# EAGLE library part WE-DS_214113003 (library Wurth_Elektronik_Passive_rev16b)
WE-DS D-SUB-Filter Solder Cup Characteristics Easy soldering, even for small strand cross sections Standard type filtered with 1000 pF High attenuation: max. ≥ 40 dB @ 180 MHz Choice of UNC 4/40 or through hole Rated voltage: 100 VDC Rated current @ 20 ºC: 5 A Withstand voltage: 250 VRMS Insulation resistance: min. 1000 MΩ Operating temperature: –55 ºC to +125 ºC Applications Filtering of interfaces External connection to -printer -sensor -display <http://katalog.we-online.de/media/thumbs2/eisos/thb_AbsDSubFilter_Loetkelch_pf2.jpg> Details see: http://katalog.we-online.de/en/pbs/Filter_Loetkelch Created on 2015-05-05 2015 (C) Wurth Elektronik
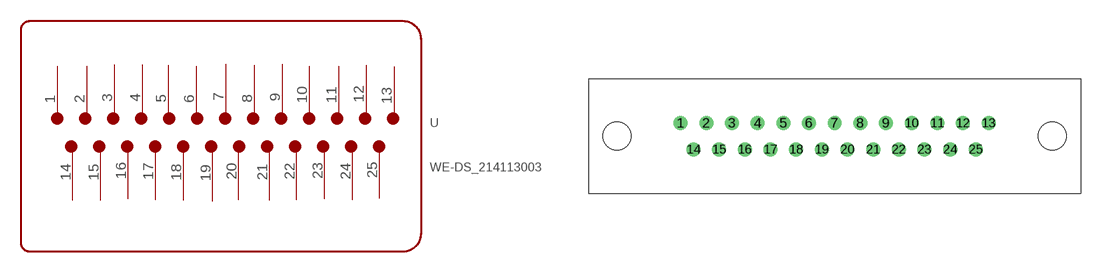
[diagram p202: symbol with the pads of WE-DS_214113003; footprint WE-DS_214113003]

Designator prefix -

## WE-DS_214113003  [WE-DS_214113003]
1  1
2  2
3  3
4  4
5  5
6  6
7  7
8  8
9  9
10  10
11  11
12  12
13  13
14  14
15  15
16  16
17  17
18  18
19  19
20  20
21  21
22  22
23  23
24  24
25  25

## Footprint WE-DS_214113003 (pad centres in mm)
drill 1: 1 -16.62,0; 2 -13.85,0; 3 -11.08,0; 4 -8.31,0; 5 -5.54,0; 6 -2.77,0; 7 0,0; 8 2.77,0; 9 5.54,0; 10 8.31,0; 11 11.08,0; 12 13.85,0; 13 16.62,0; 14 -15.235,-2.84; 15 -12.465,-2.84; 16 -9.695,-2.84; 17 -6.925,-2.84; 18 -4.155,-2.84; 19 -1.385,-2.84; 20 1.385,-2.84; 21 4.155,-2.84; 22 6.925,-2.84; 23 9.695,-2.84; 24 12.465,-2.84; 25 15.235,-2.84
hole 3 at -23.5,-1.42
hole 3 at 23.5,-1.42